# Altium footprint library MainPcblib.PcbLib: 316 footprints (part 10 of 20)
Each footprint in its own frame and in the unit in brackets; x right, y up, seen from the top. Pads: shape width x height; smd on the part's side, far side on the other; paste and mask are expansions set on the pad; w line width, h text height; cw(c..) or ccw(c..) is an arc to the next point about the centre after c.
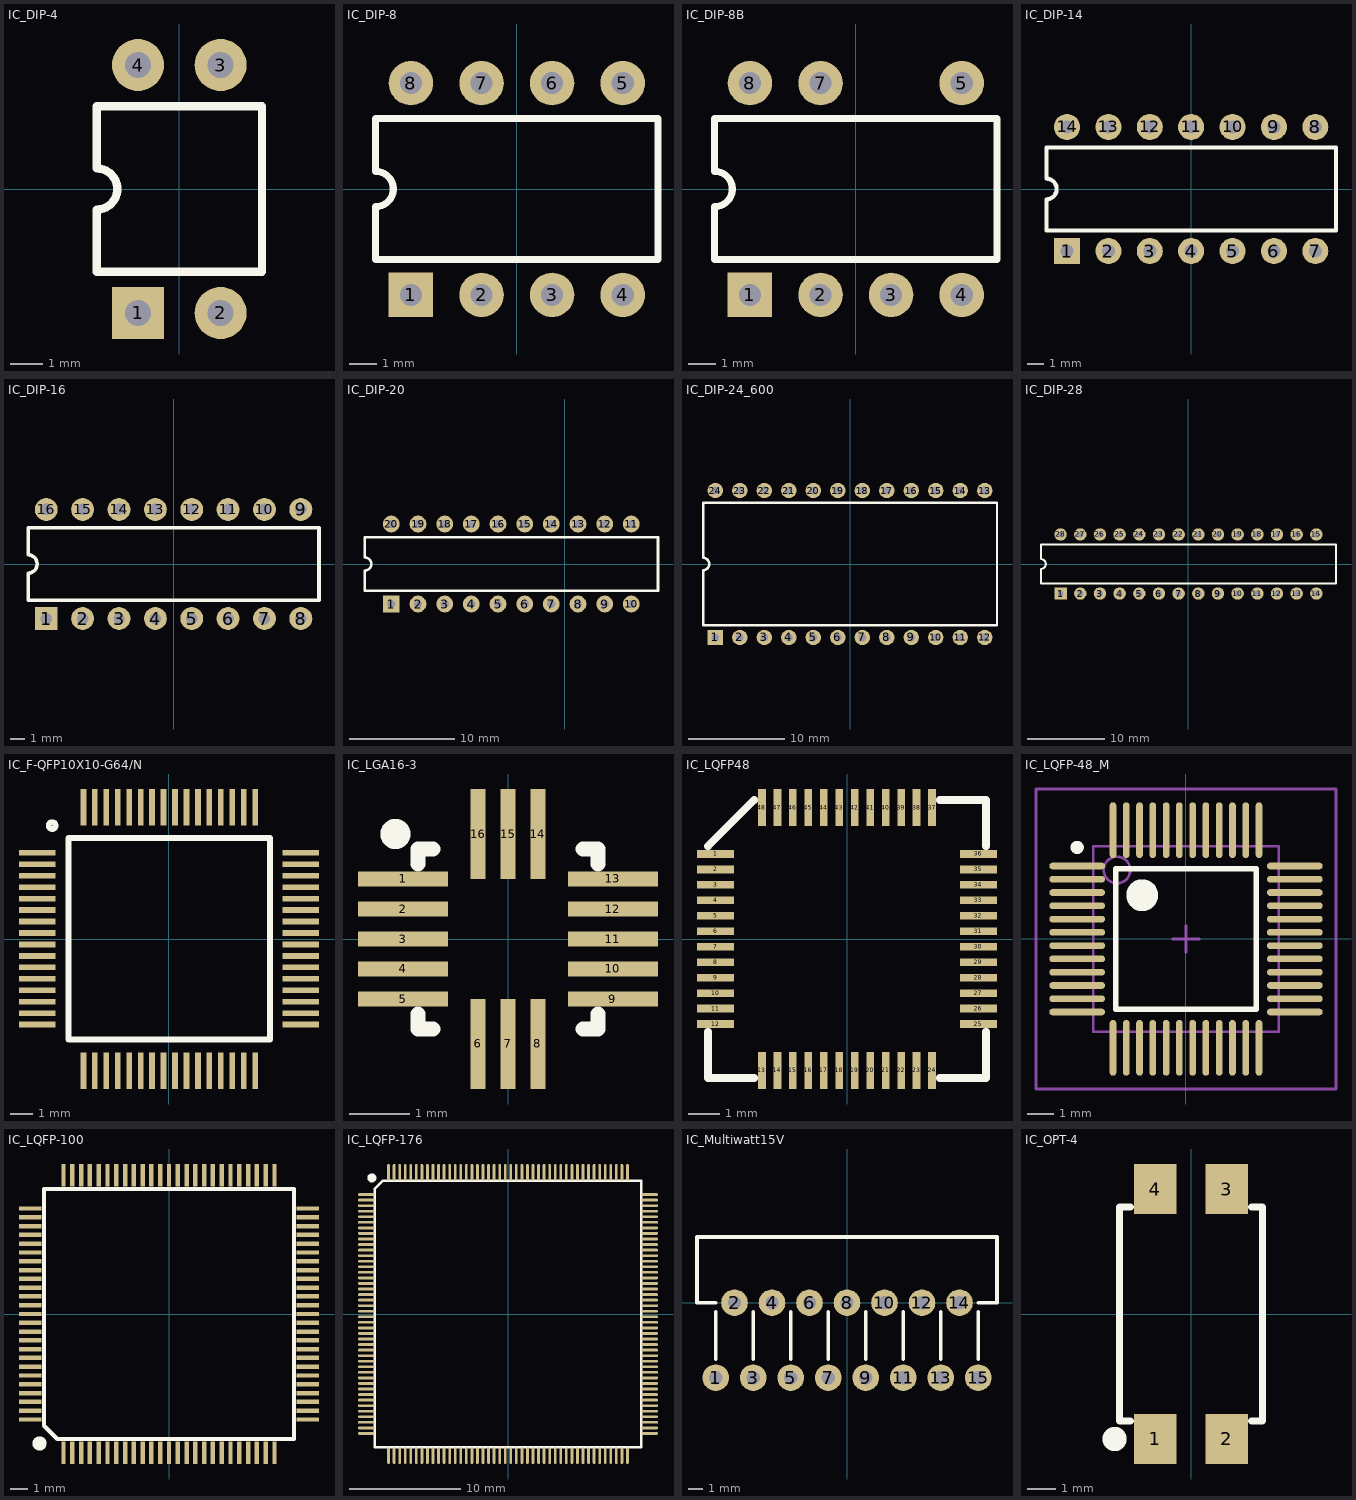
[diagram p9: the footprints below, top view; thin cyan lines are the x and y axes]

## IC_DIP-4 [mm] "DIP4"
height 5
pads (4):
  rect 1.6x1.6 hole 0.8: 1(-1.27,-3.81)
  round 1.6 hole 0.8: 2(1.27,-3.81) 3(1.27,3.81) 4(-1.27,3.81)
Top Overlay:
  lines w0.254: -2.54,-2.54 2.54,-2.54 2.54,2.54 -2.54,2.54 -2.54,0.635 cw(c-2.54,0) -2.54,-0.635 -2.54,-2.54

## IC_DIP-8 [mm] "DIP8"
height 5
pads (8):
  rect 1.6x1.6 hole 0.8: 1(-3.81,-3.81)
  round 1.6 hole 0.8: 2(-1.27,-3.81) 3(1.27,-3.81) 4(3.81,-3.81) 5(3.81,3.81) 6(1.27,3.81) 7(-1.27,3.81) 8(-3.81,3.81)
Top Overlay:
  lines w0.254: -5.08,-2.54 5.08,-2.54 5.08,2.54 -5.08,2.54 -5.08,0.635 cw(c-5.08,0) -5.08,-0.635 -5.08,-2.54

## IC_DIP-8B [mm] "for TNY26x"
pads (7):
  rect 1.6x1.6 hole 0.8: 1(-3.81,-3.81)
  round 1.6 hole 0.8: 2(-1.27,-3.81) 3(1.27,-3.81) 4(3.81,-3.81) 5(3.81,3.81) 7(-1.27,3.81) 8(-3.81,3.81)
Top Overlay:
  lines w0.254: -5.08,-2.54 -5.08,-0.635 ccw(c-5.08,0) -5.08,0.635 -5.08,2.54 5.08,2.54 5.08,-2.54 -5.08,-2.54

## IC_DIP-14 [mm] "DIP14"
height 5
pads (14):
  rect 1.6x1.6 hole 0.8: 1(-7.62,-3.81)
  round 1.6 hole 0.8: 2(-5.08,-3.81) 3(-2.54,-3.81) 4(0,-3.81) 5(2.54,-3.81) 6(5.08,-3.81) 7(7.62,-3.81) 8(7.62,3.81) 9(5.08,3.81) 10(2.54,3.81) 11(0,3.81) 12(-2.54,3.81) 13(-5.08,3.81) 14(-7.62,3.81)
Top Overlay:
  lines w0.254: -8.89,-2.54 -8.89,-0.635 ccw(c-8.89,0) -8.89,0.635 -8.89,2.54 8.89,2.54 8.89,-2.54 -8.89,-2.54

## IC_DIP-16 [mm] "DIP16"
height 5
pads (16):
  rect 1.6x1.6 hole 0.8: 1(-8.89,-3.81)
  round 1.6 hole 0.8: 2(-6.35,-3.81) 3(-3.81,-3.81) 4(-1.27,-3.81) 5(1.27,-3.81) 6(3.81,-3.81) 7(6.35,-3.81) 8(8.89,-3.81) 9(8.89,3.81) 10(6.35,3.81) 11(3.81,3.81) 12(1.27,3.81) 13(-1.27,3.81) 14(-3.81,3.81) 15(-6.35,3.81) 16(-8.89,3.81)
Top Overlay:
  lines w0.254: -10.16,-2.54 -10.16,-0.635 ccw(c-10.16,0) -10.16,0.635 -10.16,2.54 10.16,2.54 10.16,-2.54 -10.16,-2.54

## IC_DIP-20 [mm] "DIP20 socket"
height 5
pads (20):
  rect 1.6x1.6 hole 0.8: 1(-16.51,-3.81)
  round 1.6 hole 0.8: 2(-13.97,-3.81) 3(-11.43,-3.81) 4(-8.89,-3.81) 5(-6.35,-3.81) 6(-3.81,-3.81) 7(-1.27,-3.81) 8(1.27,-3.81) 9(3.81,-3.81) 10(6.35,-3.81) 11(6.35,3.81) 12(3.81,3.81) 13(1.27,3.81) 14(-1.27,3.81) 15(-3.81,3.81) 16(-6.35,3.81) 17(-8.89,3.81) 18(-11.43,3.81) 19(-13.97,3.81) 20(-16.51,3.81)
Top Overlay:
  lines w0.254: -19.05,-2.54 8.89,-2.54 8.89,2.54 -19.05,2.54 -19.05,0.635 cw(c-19.05,0) -19.05,-0.635 -19.05,-2.54

## IC_DIP-24_600 [mm] "DIP24 socket"
height 5
pads (24):
  rect 1.6x1.6 hole 0.8: 1(-13.97,-7.62)
  round 1.6 hole 0.8: 2(-11.43,-7.62) 3(-8.89,-7.62) 4(-6.35,-7.62) 5(-3.81,-7.62) 6(-1.27,-7.62) 7(1.27,-7.62) 8(3.81,-7.62) 9(6.35,-7.62) 10(8.89,-7.62) 11(11.43,-7.62) 12(13.97,-7.62) 13(13.97,7.62) 14(11.43,7.62) 15(8.89,7.62) 16(6.35,7.62) 17(3.81,7.62) 18(1.27,7.62) 19(-1.27,7.62) 20(-3.81,7.62) 21(-6.35,7.62) 22(-8.89,7.62) 23(-11.43,7.62) 24(-13.97,7.62)
Top Overlay:
  lines w0.254: -15.24,-6.35 15.24,-6.35 15.24,6.35 -15.24,6.35 -15.24,0.635 cw(c-15.24,0) -15.24,-0.635 -15.24,-6.35

## IC_DIP-28 [mm] "DIP28 socket"
height 5
pads (28):
  rect 1.6x1.6 hole 0.8: 1(-16.51,-3.81)
  round 1.6 hole 0.8: 2(-13.97,-3.81) 3(-11.43,-3.81) 4(-8.89,-3.81) 5(-6.35,-3.81) 6(-3.81,-3.81) 7(-1.27,-3.81) 8(1.27,-3.81) 9(3.81,-3.81) 10(6.35,-3.81) 11(8.89,-3.81) 12(11.43,-3.81) 13(13.97,-3.81) 14(16.51,-3.81) 15(16.51,3.81) 16(13.97,3.81) 17(11.43,3.81) 18(8.89,3.81) 19(6.35,3.81) 20(3.81,3.81) 21(1.27,3.81) 22(-1.27,3.81) 23(-3.81,3.81) 24(-6.35,3.81) 25(-8.89,3.81) 26(-11.43,3.81) 27(-13.97,3.81) 28(-16.51,3.81)
Top Overlay:
  lines w0.254: -19.05,-2.54 19.05,-2.54 19.05,2.54 -19.05,2.54 -19.05,0.635 cw(c-19.05,0) -19.05,-0.635 -19.05,-2.54

## IC_F-QFP10X10-G64/N [mm]
pads (64):
  rect 1.6x0.25 smd: 1(-5.75,3.762) 2(-5.75,3.262) 3(-5.75,2.762) 4(-5.75,2.262) 5(-5.75,1.762) 6(-5.75,1.262) 7(-5.75,0.762) 8(-5.75,0.262) 9(-5.75,-0.238) 10(-5.75,-0.738) 11(-5.75,-1.238) 12(-5.75,-1.738) 13(-5.75,-2.238) 14(-5.75,-2.738) 15(-5.75,-3.238) 16(-5.75,-3.738) 33(5.75,-3.738) 34(5.75,-3.238) 35(5.75,-2.738) 36(5.75,-2.238) 37(5.75,-1.738) 38(5.75,-1.238) 39(5.75,-0.738) 40(5.75,-0.238) 41(5.75,0.262) 42(5.75,0.762) 43(5.75,1.262) 44(5.75,1.762) 45(5.75,2.262) 46(5.75,2.762) 47(5.75,3.262) 48(5.75,3.762)
  rect 0.25x1.6 smd: 17(-3.738,-5.75) 18(-3.238,-5.75) 19(-2.738,-5.75) 20(-2.238,-5.75) 21(-1.738,-5.75) 22(-1.238,-5.75) 23(-0.738,-5.75) 24(-0.238,-5.75) 25(0.262,-5.75) 26(0.762,-5.75) 27(1.262,-5.75) 28(1.762,-5.75) 29(2.262,-5.75) 30(2.762,-5.75) 31(3.262,-5.75) 32(3.762,-5.75) 49(3.762,5.75) 50(3.262,5.75) 51(2.762,5.75) 52(2.262,5.75) 53(1.762,5.75) 54(1.262,5.75) 55(0.762,5.75) 56(0.262,5.75) 57(-0.238,5.75) 58(-0.738,5.75) 59(-1.238,5.75) 60(-1.738,5.75) 61(-2.238,5.75) 62(-2.738,5.75) 63(-3.238,5.75) 64(-3.738,5.75)
Top Overlay:
  circle w0.25: c-5.103,4.953 r0.15
  lines w0.25: -4.388,-4.388 -4.388,4.412 4.412,4.412 4.412,-4.388 -4.388,-4.388

## IC_LGA16-3 [mm] "for LIS3xx accelerometers"
height 1
pads (16):
  rect 1.5x0.25 smd: 1(-1.75,1) 2(-1.75,0.5) 3(-1.75,0) 4(-1.75,-0.5) 5(-1.75,-1) 9(1.75,-1) 10(1.75,-0.5) 11(1.75,0) 12(1.75,0.5) 13(1.75,1)
  rect 0.25x1.5 smd: 6(-0.5,-1.75) 7(0,-1.75) 8(0.5,-1.75) 14(0.5,1.75) 15(0,1.75) 16(-0.5,1.75)
Top Overlay:
  circle w0.254: c-1.875,1.75 r0.125
  lines w0.254: -1.5,-1.25 -1.5,-1.5 -1.25,-1.5 ; -1.5,1.25 -1.5,1.5 -1.25,1.5 ; 1.25,-1.5 1.5,-1.5 1.5,-1.25 ; 1.25,1.5 1.5,1.5 1.5,1.25

## IC_LQFP48 [mm] "for MC9S12C64"
pads (48):
  rect 1.2x0.25 smd: 1(-4.25,2.75) 2(-4.25,2.25) 3(-4.25,1.75) 4(-4.25,1.25) 5(-4.25,0.75) 6(-4.25,0.25) 7(-4.25,-0.25) 8(-4.25,-0.75) 9(-4.25,-1.25) 10(-4.25,-1.75) 11(-4.25,-2.25) 12(-4.25,-2.75) 25(4.25,-2.75) 26(4.25,-2.25) 27(4.25,-1.75) 28(4.25,-1.25) 29(4.25,-0.75) 30(4.25,-0.25) 31(4.25,0.25) 32(4.25,0.75) 33(4.25,1.25) 34(4.25,1.75) 35(4.25,2.25) 36(4.25,2.75)
  rect 0.25x1.2 smd: 13(-2.75,-4.25) 14(-2.25,-4.25) 15(-1.75,-4.25) 16(-1.25,-4.25) 17(-0.75,-4.25) 18(-0.25,-4.25) 19(0.25,-4.25) 20(0.75,-4.25) 21(1.25,-4.25) 22(1.75,-4.25) 23(2.25,-4.25) 24(2.75,-4.25) 37(2.75,4.25) 38(2.25,4.25) 39(1.75,4.25) 40(1.25,4.25) 41(0.75,4.25) 42(0.25,4.25) 43(-0.25,4.25) 44(-0.75,4.25) 45(-1.25,4.25) 46(-1.75,4.25) 47(-2.25,4.25) 48(-2.75,4.25)
Top Overlay:
  lines w0.254: -4.5,-3 -4.5,-4.5 -3,-4.5 ; -4.5,3 -3,4.5 ; 3,-4.5 4.5,-4.5 4.5,-3 ; 3,4.5 4.5,4.5 4.5,3

## IC_LQFP-48_M [mm] "48-Pin Thin Quad Flat Pack 0.5 mm Pitch, IPC Low Density"
height 1.6
pads (48):
  oval 2.1x0.25 smd: 1(-4.1,2.75) 2(-4.1,2.25) 3(-4.1,1.75) 4(-4.1,1.25) 5(-4.1,0.75) 6(-4.1,0.25) 7(-4.1,-0.25) 8(-4.1,-0.75) 9(-4.1,-1.25) 10(-4.1,-1.75) 11(-4.1,-2.25) 12(-4.1,-2.75) 25(4.1,-2.75) 26(4.1,-2.25) 27(4.1,-1.75) 28(4.1,-1.25) 29(4.1,-0.75) 30(4.1,-0.25) 31(4.1,0.25) 32(4.1,0.75) 33(4.1,1.25) 34(4.1,1.75) 35(4.1,2.25) 36(4.1,2.75)
  oval 0.25x2.1 smd: 13(-2.75,-4.1) 14(-2.25,-4.1) 15(-1.75,-4.1) 16(-1.25,-4.1) 17(-0.75,-4.1) 18(-0.25,-4.1) 19(0.25,-4.1) 20(0.75,-4.1) 21(1.25,-4.1) 22(1.75,-4.1) 23(2.25,-4.1) 24(2.75,-4.1) 37(2.75,4.1) 38(2.25,4.1) 39(1.75,4.1) 40(1.25,4.1) 41(0.75,4.1) 42(0.25,4.1) 43(-0.25,4.1) 44(-0.75,4.1) 45(-1.25,4.1) 46(-1.75,4.1) 47(-2.25,4.1) 48(-2.75,4.1)
Top Overlay:
  circle w0.6: c-1.65,1.65 r0.3
  circle w0.25: c-4.1,3.45 r0.125
  lines w0.2: -2.65,-2.65 2.65,-2.65 2.65,2.65 -2.65,2.65 -2.65,-2.65
Mechanical 13:
  circle w0.1: c-2.6,2.6 r0.5
  lines w0.1: -3.5,-3.5 3.5,-3.5 3.5,3.5 -3.5,3.5 -3.5,-3.5
Mechanical 15:
  lines w0.1: -0.5,0 0.5,0 ; 0,-0.5 0,0.5 ; -5.65,-5.65 5.65,-5.65 5.65,5.65 -5.65,5.65 -5.65,-5.65
3D body: height 1.6, standoff 0, extent -3.5,-3.5 3.5,3.5

## IC_LQFP-100 [mm] "DM9000/AT91SAM7X"
height 1.6
pads (100):
  rect 0.25x1.27 smd: 1(-6,-7.9) 2(-5.5,-7.9) 3(-5,-7.9) 4(-4.5,-7.9) 5(-4,-7.9) 6(-3.5,-7.9) 7(-3,-7.9) 8(-2.5,-7.9) 9(-2,-7.9) 10(-1.5,-7.9) 11(-1,-7.9) 12(-0.5,-7.9) 13(0,-7.9) 14(0.5,-7.9) 15(1,-7.9) 16(1.5,-7.9) 17(2,-7.9) 18(2.5,-7.9) 19(3,-7.9) 20(3.5,-7.9) 21(4,-7.9) 22(4.5,-7.9) 23(5,-7.9) 24(5.5,-7.9) 25(6,-7.9) 51(6,7.9) 52(5.5,7.9) 53(5,7.9) 54(4.5,7.9) 55(4,7.9) 56(3.5,7.9) 57(3,7.9) 58(2.5,7.9) 59(2,7.9) 60(1.5,7.9) 61(1,7.9) 62(0.5,7.9) 63(0,7.9) 64(-0.5,7.9) 65(-1,7.9) 66(-1.5,7.9) 67(-2,7.9) 68(-2.5,7.9) 69(-3,7.9) 70(-3.5,7.9) 71(-4,7.9) 72(-4.5,7.9) 73(-5,7.9) 74(-5.5,7.9) 75(-6,7.9)
  rect 1.27x0.25 smd: 26(7.9,-6) 27(7.9,-5.5) 28(7.9,-5) 29(7.9,-4.5) 30(7.9,-4) 31(7.9,-3.5) 32(7.9,-3) 33(7.9,-2.5) 34(7.9,-2) 35(7.9,-1.5) 36(7.9,-1) 37(7.9,-0.5) 38(7.9,0) 39(7.9,0.5) 40(7.9,1) 41(7.9,1.5) 42(7.9,2) 43(7.9,2.5) 44(7.9,3) 45(7.9,3.5) 46(7.9,4) 47(7.9,4.5) 48(7.9,5) 49(7.9,5.5) 50(7.9,6) 76(-7.9,6) 77(-7.9,5.5) 78(-7.9,5) 79(-7.9,4.5) 80(-7.9,4) 81(-7.9,3.5) 82(-7.9,3) 83(-7.9,2.5) 84(-7.9,2) 85(-7.9,1.5) 86(-7.9,1) 87(-7.9,0.5) 88(-7.9,0) 89(-7.9,-0.5) 90(-7.9,-1) 91(-7.9,-1.5) 92(-7.9,-2) 93(-7.9,-2.5) 94(-7.9,-3) 95(-7.9,-3.5) 96(-7.9,-4) 97(-7.9,-4.5) 98(-7.9,-5) 99(-7.9,-5.5) 100(-7.9,-6)
Top Overlay:
  circle w0.406: c-7.366,-7.366 r0.203
  lines w0.254: -7.112,-6.35 -7.112,7.112 7.112,7.112 7.112,-7.112 -6.35,-7.112 -7.112,-6.35

## IC_LQFP-176 [mm] "For BF532"
height 2.032
pads (176):
  oval 1.5x0.25 smd: 1(-12.75,10.75) 2(-12.75,10.25) 3(-12.75,9.75) 4(-12.75,9.25) 5(-12.75,8.75) 6(-12.75,8.25) 7(-12.75,7.75) 8(-12.75,7.25) 9(-12.75,6.75) 10(-12.75,6.25) 11(-12.75,5.75) 12(-12.75,5.25) 13(-12.75,4.75) 14(-12.75,4.25) 15(-12.75,3.75) 16(-12.75,3.25) 17(-12.75,2.75) 18(-12.75,2.25) 19(-12.75,1.75) 20(-12.75,1.25) 21(-12.75,0.75) 22(-12.75,0.25) 23(-12.75,-0.25) 24(-12.75,-0.75) 25(-12.75,-1.25) 26(-12.75,-1.75) 27(-12.75,-2.25) 28(-12.75,-2.75) 29(-12.75,-3.25) 30(-12.75,-3.75) 31(-12.75,-4.25) 32(-12.75,-4.75) 33(-12.75,-5.25) 34(-12.75,-5.75) 35(-12.75,-6.25) 36(-12.75,-6.75) 37(-12.75,-7.25) 38(-12.75,-7.75) 39(-12.75,-8.25) 40(-12.75,-8.75) 41(-12.75,-9.25) 42(-12.75,-9.75) 43(-12.75,-10.25) 44(-12.75,-10.75) 89(12.75,-10.75) 90(12.75,-10.25) 91(12.75,-9.75) 92(12.75,-9.25) 93(12.75,-8.75) 94(12.75,-8.25) 95(12.75,-7.75) 96(12.75,-7.25) 97(12.75,-6.75) 98(12.75,-6.25) 99(12.75,-5.75) 100(12.75,-5.25) 101(12.75,-4.75) 102(12.75,-4.25) 103(12.75,-3.75) 104(12.75,-3.25) 105(12.75,-2.75) 106(12.75,-2.25) 107(12.75,-1.75) 108(12.75,-1.25) 109(12.75,-0.75) 110(12.75,-0.25) 111(12.75,0.25) 112(12.75,0.75) 113(12.75,1.25) 114(12.75,1.75) 115(12.75,2.25) 116(12.75,2.75) 117(12.75,3.25) 118(12.75,3.75) 119(12.75,4.25) 120(12.75,4.75) 121(12.75,5.25) 122(12.75,5.75) 123(12.75,6.25) 124(12.75,6.75) 125(12.75,7.25) 126(12.75,7.75) 127(12.75,8.25) 128(12.75,8.75) 129(12.75,9.25) 130(12.75,9.75) 131(12.75,10.25) 132(12.75,10.75)
  oval 0.25x1.5 smd: 45(-10.75,-12.75) 46(-10.25,-12.75) 47(-9.75,-12.75) 48(-9.25,-12.75) 49(-8.75,-12.75) 50(-8.25,-12.75) 51(-7.75,-12.75) 52(-7.25,-12.75) 53(-6.75,-12.75) 54(-6.25,-12.75) 55(-5.75,-12.75) 56(-5.25,-12.75) 57(-4.75,-12.75) 58(-4.25,-12.75) 59(-3.75,-12.75) 60(-3.25,-12.75) 61(-2.75,-12.75) 62(-2.25,-12.75) 63(-1.75,-12.75) 64(-1.25,-12.75) 65(-0.75,-12.75) 66(-0.25,-12.75) 67(0.25,-12.75) 68(0.75,-12.75) 69(1.25,-12.75) 70(1.75,-12.75) 71(2.25,-12.75) 72(2.75,-12.75) 73(3.25,-12.75) 74(3.75,-12.75) 75(4.25,-12.75) 76(4.75,-12.75) 77(5.25,-12.75) 78(5.75,-12.75) 79(6.25,-12.75) 80(6.75,-12.75) 81(7.25,-12.75) 82(7.75,-12.75) 83(8.25,-12.75) 84(8.75,-12.75) 85(9.25,-12.75) 86(9.75,-12.75) 87(10.25,-12.75) 88(10.75,-12.75) 133(10.75,12.75) 134(10.25,12.75) 135(9.75,12.75) 136(9.25,12.75) 137(8.75,12.75) 138(8.25,12.75) 139(7.75,12.75) 140(7.25,12.75) 141(6.75,12.75) 142(6.25,12.75) 143(5.75,12.75) 144(5.25,12.75) 145(4.75,12.75) 146(4.25,12.75) 147(3.75,12.75) 148(3.25,12.75) 149(2.75,12.75) 150(2.25,12.75) 151(1.75,12.75) 152(1.25,12.75) 153(0.75,12.75) 154(0.25,12.75) 155(-0.25,12.75) 156(-0.75,12.75) 157(-1.25,12.75) 158(-1.75,12.75) 159(-2.25,12.75) 160(-2.75,12.75) 161(-3.25,12.75) 162(-3.75,12.75) 163(-4.25,12.75) 164(-4.75,12.75) 165(-5.25,12.75) 166(-5.75,12.75) 167(-6.25,12.75) 168(-6.75,12.75) 169(-7.25,12.75) 170(-7.75,12.75) 171(-8.25,12.75) 172(-8.75,12.75) 173(-9.25,12.75) 174(-9.75,12.75) 175(-10.25,12.75) 176(-10.75,12.75)
Top Overlay:
  circle w0.5: c-12.25,12.25 r0.15
  lines w0.254: -12,-12 -12,11.25 -11.25,12 12,12 12,-12 -12,-12

## IC_Multiwatt15V [mm] "for TDA729[3;4]"
pads (15):
  round 1.8 hole 0.9: 1(-8.89,-5.08) 2(-7.62,0) 3(-6.35,-5.08) 4(-5.08,0) 5(-3.81,-5.08) 6(-2.54,0) 7(-1.27,-5.08) 8(0,0) 9(1.27,-5.08) 10(2.54,0) 11(3.81,-5.08) 12(5.08,0) 13(6.35,-5.08) 14(7.62,0) 15(8.89,-5.08)
Top Overlay:
  lines w0.254: -8.89,-3.81 -8.89,-0.635 ; -8.89,0 -10.16,0 -10.16,4.445 10.16,4.445 10.16,0 8.89,0 ; -6.35,-3.81 -6.35,-0.635 ; -3.81,-3.81 -3.81,-0.635 ; -1.27,-3.81 -1.27,-0.635 ; 1.27,-3.81 1.27,-0.635 ; 3.81,-3.81 3.81,-0.635 ; 6.35,-3.81 6.35,-0.635 ; 8.89,-3.81 8.89,-0.635

## IC_OPT-4 [mil] "For LTV-817SMD"
height 141.73
pads (4):
  rect 60x70 smd: 1(-50,-175) 2(50,-175) 3(50,175) 4(-50,175)
Top Overlay:
  circle w20: c-107,-175 r7
  lines w10: -85,-150 -100,-150 -100,150 -85,150 ; 85,-150 100,-150 100,150 85,150